# Altium schematic symbol library PSMN2R2-25YLC 25V Logic Level MOSFET.SchLib: 1 symbol
Pins are listed as number, name and electrical type; pins without a type are passive.

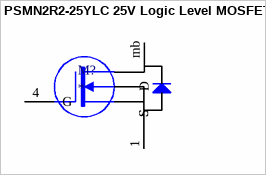
[diagram p0: symbol PSMN2R2-25YLC 25V Logic Level MOSFET]

## PSMN2R2-25YLC 25V Logic Level MOSFET
designator M?
MfrPartNo: *
pins: 1 S, 2 S, 3 S, 4 G, mb D